# EAGLE library part STM32L462CE (library VNA)
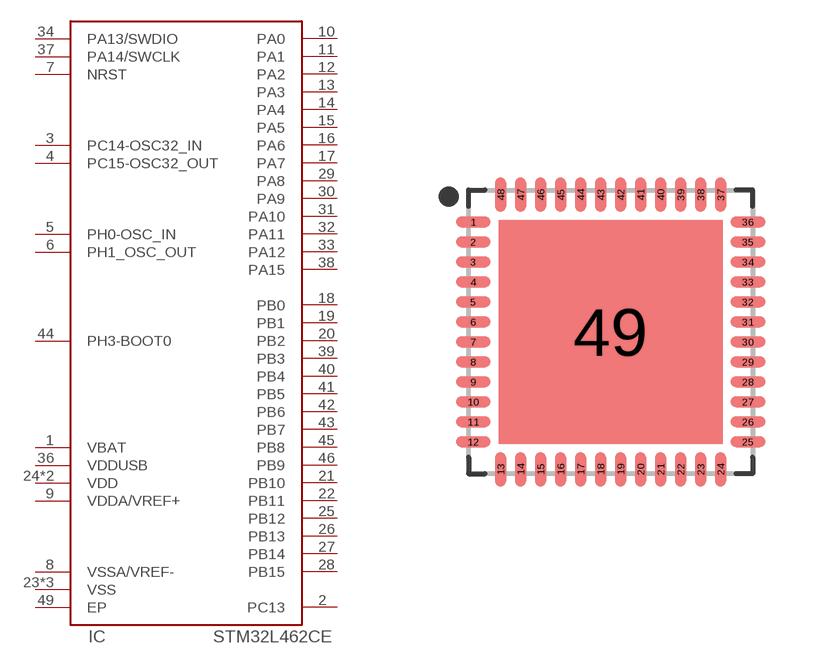
[diagram p22: symbol with the pads of QFN50P700X700X60-49T560N; footprint QFN50P700X700X60-49T560N]

Designator prefix IC

## STM32L462CE  [QFN50P700X700X60-49T560N]
1  VBAT  pwr
2  PC13
3  PC14-OSC32_IN
4  PC15-OSC32_OUT
5  PH0-OSC_IN
6  PH1_OSC_OUT
7  NRST  in
8  VSSA/VREF-  pwr
9  VDDA/VREF+  pwr
10  PA0
11  PA1
12  PA2
13  PA3
14  PA4
15  PA5
16  PA6
17  PA7
18  PB0
19  PB1
20  PB2
21  PB10
22  PB11
23  VSS  pwr
24  VDD  pwr
25  PB12
26  PB13
27  PB14
28  PB15
29  PA8
30  PA9
31  PA10
32  PA11
33  PA12
34  PA13/SWDIO
35  VSS  pwr
36  VDDUSB
37  PA14/SWCLK
38  PA15
39  PB3
40  PB4
41  PB5
42  PB6
43  PB7
44  PH3-BOOT0
45  PB8
46  PB9
47  VSS  pwr
48  VDD  pwr
49  EP

## Footprint QFN50P700X700X60-49T560N (pad centres in mm)
48-QFN, 0.50 mm pitch, 7.00 X 7.00 X 0.60 mm body, 5.60 X 5.60 mm thermal pad 48-pin QFN package with 0.50 mm pitch with body size 7.00 X 7.00 X 0.60 mm and thermal pad size 5.60 X 5.60 mm
smd 0.86 x 0.27: 1 -3.435,2.75; 2 -3.435,2.25; 3 -3.435,1.75; 4 -3.435,1.25; 5 -3.435,0.75; 6 -3.435,0.25; 7 -3.435,-0.25; 8 -3.435,-0.75; 9 -3.435,-1.25; 10 -3.435,-1.75; 11 -3.435,-2.25; 12 -3.435,-2.75; 25 3.435,-2.75; 26 3.435,-2.25; 27 3.435,-1.75; 28 3.435,-1.25; 29 3.435,-0.75; 30 3.435,-0.25; 31 3.435,0.25; 32 3.435,0.75; 33 3.435,1.25; 34 3.435,1.75; 35 3.435,2.25; 36 3.435,2.75
smd 0.27 x 0.86: 13 -2.75,-3.435; 14 -2.25,-3.435; 15 -1.75,-3.435; 16 -1.25,-3.435; 17 -0.75,-3.435; 18 -0.25,-3.435; 19 0.25,-3.435; 20 0.75,-3.435; 21 1.25,-3.435; 22 1.75,-3.435; 23 2.25,-3.435; 24 2.75,-3.435; 37 2.75,3.435; 38 2.25,3.435; 39 1.75,3.435; 40 1.25,3.435; 41 0.75,3.435; 42 0.25,3.435; 43 -0.25,3.435; 44 -0.75,3.435; 45 -1.25,3.435; 46 -1.75,3.435; 47 -2.25,3.435; 48 -2.75,3.435
smd 5.6 x 5.6: 49 0,0